# Altium schematic symbol library Schlib SOM AM625.SchLib: 118 symbols (part 2 of 4)
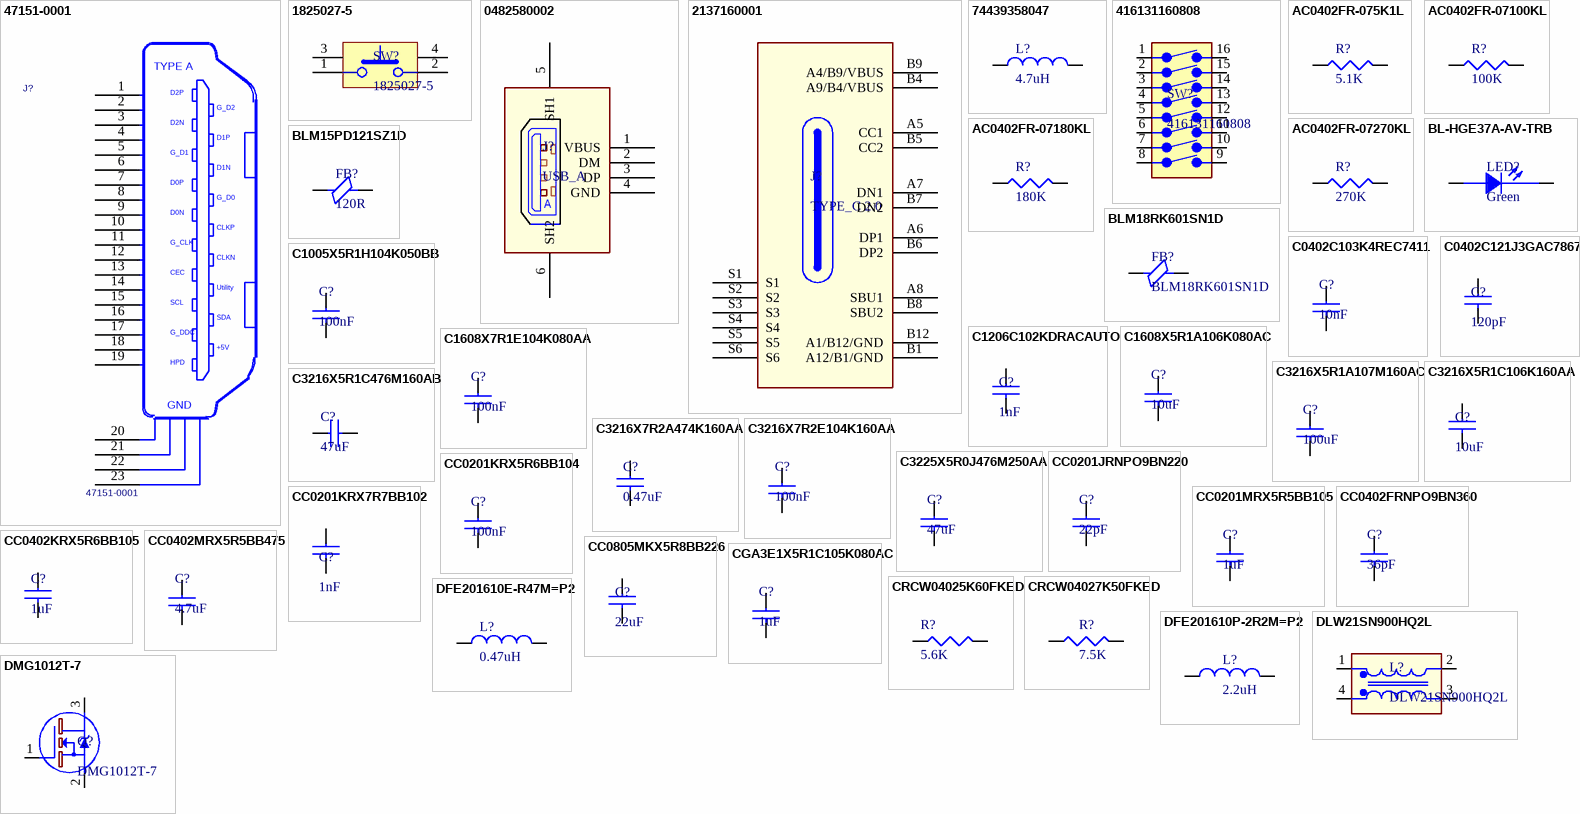
[diagram p4: symbols 47151-0001 to DMG1012T-7]

## CC0402MRX5R5BB475
designator C?, comment 4.7uF
Multilayer Ceramic Capacitor, 4.7 uF, 6.3V, ± 10%, X5R, 0402 [1005 Metric]; Manufacturer: Yageo; Manufacturer Part Number: CC0402MRX5R5BB475; Material: 4241ConductorMaterial; Temperature Coefficient: 30ppm/°C; Supplier 1: Future Electronics; RoHS: Yes; Category: Ceramic Capacitors; Stock 1: 240000; Pricing 1: 10000=0.0195, 20000=0.019, 40000=0.0186, 50000=0.0185, 150000=0.0176 (USD); ComponentLink1URL: http://www.mouser.com/ds/2/447/UPY-GPHC_X5R_4V-to-50V_25-1131599.pdf?src-supplier=Mouser; ComponentLink1Description: http://www.mouser.com/ds/2/447/UPY-GPHC_X5R_4V-to-50V_25-1131599.pdf?src-supplier=Mouser; ComponentLink2URL: https://datasheet.octopart.com/CC0402MRX5R5BB475-Yageo-datasheet-140260304.pdf?src-supplier=Newark; ComponentLink2Description: https://datasheet.octopart.com/CC0402MRX5R5BB475-Yageo-datasheet-140260304.pdf?src-supplier=Newark; ComponentLink3URL: https://datasheet.octopart.com/CC0402MRX5R5BB475-Yageo-datasheet-137875056.pdf?src-supplier=Future+Electronics; ComponentLink3Description: https://datasheet.octopart.com/CC0402MRX5R5BB475-Yageo-datasheet-137875056.pdf?src-supplier=Future+Electronics; ComponentLink4URL: http://www.yageo.com/documents/recent/UPY-GPHC_X5R_4V-to-50V_25.pdf?src-supplier=Digi-Key; ComponentLink4Description: http://www.yageo.com/documents/recent/UPY-GPHC_X5R_4V-to-50V_25.pdf?src-supplier=Digi-Key; ComponentLink5URL: http://www.yageo.com/exep/pages/download/literatures/ProductSelectionGuide%202014_Final_2.pdf?src-supplier=Digi-Key; ComponentLink5Description: http://www.yageo.com/exep/pages/download/literatures/ProductSelectionGuide%202014_Final_2.pdf?src-supplier=Digi-Key; ComponentLink6URL: http://www.yageo.com/documents/recent/UPY-GPHC_X5R_4V-to-50V_12.pdf?src-supplier=Avnet; ComponentLink6Description: http://www.yageo.com/documents/recent/UPY-GPHC_X5R_4V-to-50V_12.pdf?src-supplier=Avnet; ComponentLink7URL: https://datasheet.octopart.com/CC0402MRX5R5BB475-Yageo-datasheet-149070021.pdf?src-supplier=TME; ComponentLink7Description: https://datasheet.octopart.com/CC0402MRX5R5BB475-Yageo-datasheet-149070021.pdf?src-supplier=TME; Supplier Part Number 1: 7044477
footprint C0402
pins: 1, 2

## CC0805MKX5R8BB226
designator C?, comment 22uF
Multilayer Ceramic Capacitor, 22 uF, 25 V, ± 20%, X6S, 0805 [2012 Metric]; Manufacturer: Yageo; Manufacturer Part Number: CC0805MKX5R8BB226; Material: 4241ConductorMaterial; Supplier 1: Future Electronics; RoHS: Yes; Category: Ceramic Capacitors; Stock 1: 10; Pricing 1: 1=0.375, 15=0.3, 75=0.255, 300=0.215, 1500=0.172 (USD); ComponentLink1URL: http://www.mouser.com/ds/2/447/Yageo_UPY-GP_NP0_16V-to-50V_9-358835.pdf?src-supplier=Mouser; ComponentLink1Description: http://www.mouser.com/ds/2/447/Yageo_UPY-GP_NP0_16V-to-50V_9-358835.pdf?src-supplier=Mouser; ComponentLink2URL: https://datasheet.octopart.com/CC0805MKX5R8BB226-Yageo-datasheet-137700085.pdf?src-supplier=Future+Electronics; ComponentLink2Description: https://datasheet.octopart.com/CC0805MKX5R8BB226-Yageo-datasheet-137700085.pdf?src-supplier=Future+Electronics; ComponentLink3URL: http://www.yageo.com/documents/recent/UPY-GPHC_X5R_4V-to-50V_25.pdf?src-supplier=Digi-Key; ComponentLink3Description: http://www.yageo.com/documents/recent/UPY-GPHC_X5R_4V-to-50V_25.pdf?src-supplier=Digi-Key; Supplier Part Number 1: 1151527
footprint C0805
pins: 1, 2

## CGA3E1X5R1C105K080AC
designator C?, comment 1uF
Multilayer Ceramic Capacitor, 1 uF, 16 V, ± 10%, X5R, 0603 [1608 Metric]; Manufacturer: TDK; Manufacturer Part Number: CGA3E1X5R1C105K080AC; Material: 4241ConductorMaterial; Voltage Rating: 16V; Supplier 1: Digi-Key; RoHS: Yes; Category: Ceramic Capacitors; Stock 1: 37719; Pricing 1: 1=0.11, 10=0.072, 50=0.0432, 100=0.034, 500=0.02514, 1000=0.02081 (USD); Mount: Surface Mount; Case/Package: 0603; Case Code (Metric): 1608; Case Code (Imperial): 0603; Weight: 7.1E-05oz; Min Operating Temperature: -55°C; Max Operating Temperature: 85°C; Package Quantity: 4000; Packaging: Tape and Reel; Capacitance: 1uF; Tolerance: 10%; Dielectric: X5R; Termination: SMD/SMT; Voltage Rating (DC): 16V; Series: CGA; Length: 1.6mm; Width: 0.8mm; Height: 0.8mm; Ratings: AEC-Q200; RoHS Compliant: Yes; Lead Free: 5697LeadFree; ComponentLink1URL: http://www.farnell.com/datasheets/1936565.pdf?src-supplier=Farnell; ComponentLink1Description: http://www.farnell.com/datasheets/1936565.pdf?src-supplier=Farnell; ComponentLink2URL: https://product.tdk.com/info/en/documents/chara_sheet/CGA3E1X5R1C105K080AC.pdf?src-supplier=Digi-Key; ComponentLink2Description: https://product.tdk.com/info/en/documents/chara_sheet/CGA3E1X5R1C105K080AC.pdf?src-supplier=Digi-Key; ComponentLink3URL: https://product.tdk.com/info/en/catalog/datasheets/mlcc_automotive_general_en.pdf?ref_disty=digikey&src-supplier=Digi-Key; ComponentLink3Description: https://product.tdk.com/info/en/catalog/datasheets/mlcc_automotive_general_en.pdf?ref_disty=digikey&src-supplier=Digi-Key; ComponentLink4URL: https://datasheet.octopart.com/CGA3E1X5R1C105K080AC-TDK-datasheet-43366117.pdf?src-supplier=Newark; ComponentLink4Description: https://datasheet.octopart.com/CGA3E1X5R1C105K080AC-TDK-datasheet-43366117.pdf?src-supplier=Newark; ComponentLink5URL: http://product.tdk.com/capacitor/mlcc/detailed_information.php?lang=en&ref=jp&part_no=CGA3E1X5R1C105K080AC&src-supplier=Mouser; ComponentLink5Description: http://product.tdk.com/capacitor/mlcc/detailed_information.php?lang=en&ref=jp&part_no=CGA3E1X5R1C105K080AC&src-supplier=Mouser; ComponentLink6URL: http://product.tdk.com/en/catalog/datasheets/mlcc_automotive_general_en.pdf?src-supplier=Avnet; ComponentLink6Description: http://product.tdk.com/en/catalog/datasheets/mlcc_automotive_general_en.pdf?src-supplier=Avnet; Supplier Part Number 1: 445-12457-1-ND
footprint C0603
pins: 1, 2

## CRCW04025K60FKED
designator R?, comment 5.6K
SMD Chip Resistor, 5.6 kOhm, ± 1%, 63 mW, 0402 [1005 Metric], Thick Film, General Purpose; Manufacturer: Vishay; Manufacturer Part Number: CRCW04025K60FKED; Supplier 1: Mouser; RoHS: Yes; Category: Chip SMD Resistors; Stock 1: 9314; Pricing 1: 1=0.1, 10=0.016, 50=0.016, 100=0.01, 1000=0.007, 10000=0.004 (USD); ComponentLink1URL: https://datasheet.ciiva.com/11811/0900766b80d98824-11811648.pdf?src-supplier=Rs; ComponentLink1Description: https://datasheet.ciiva.com/11811/0900766b80d98824-11811648.pdf?src-supplier=Rs; ComponentLink2URL: https://datasheet.ciiva.com/5542/dcrcwe3-109170-5542982.pdf?src-supplier=Mouser; ComponentLink2Description: https://datasheet.ciiva.com/5542/dcrcwe3-109170-5542982.pdf?src-supplier=Mouser; ComponentLink3URL: https://datasheet.ciiva.com/2463/dcrcwe3-2463170.pdf?src-supplier=Digi-Key; ComponentLink3Description: https://datasheet.ciiva.com/2463/dcrcwe3-2463170.pdf?src-supplier=Digi-Key; ComponentLink4URL: https://datasheet.ciiva.com/2463/dcrcwe3-2463171.pdf?src-supplier=Digi-Key; ComponentLink4Description: https://datasheet.ciiva.com/2463/dcrcwe3-2463171.pdf?src-supplier=Digi-Key; ComponentLink5URL: https://datasheet.ciiva.com/2463/dcrcwe3-2463169.pdf?src-supplier=Digi-Key; ComponentLink5Description: https://datasheet.ciiva.com/2463/dcrcwe3-2463169.pdf?src-supplier=Digi-Key; ComponentLink6URL: https://datasheet.ciiva.com/26316/fld-crcw-e3-data-en-26316655.pdf?src-supplier=Distrelec; ComponentLink6Description: https://datasheet.ciiva.com/26316/fld-crcw-e3-data-en-26316655.pdf?src-supplier=Distrelec; ComponentLink7URL: https://datasheet.ciiva.com/16764/70201119-16764745.pdf?src-supplier=Allied+Electronics; ComponentLink7Description: https://datasheet.ciiva.com/16764/70201119-16764745.pdf?src-supplier=Allied+Electronics; ComponentLink8URL: https://datasheet.ciiva.com/22871/70201119-22871743.pdf?src-supplier=Allied+Electronics; ComponentLink8Description: https://datasheet.ciiva.com/22871/70201119-22871743.pdf?src-supplier=Allied+Electronics; ComponentLink9URL: https://datasheet.ciiva.com/22683/1847332-22683286.pdf?src-supplier=Element14; ComponentLink9Description: https://datasheet.ciiva.com/22683/1847332-22683286.pdf?src-supplier=Element14; ComponentLink10URL: https://datasheet.ciiva.com/7743/dcrcwe3-7743708.pdf?src-supplier=Element14; ComponentLink10Description: https://datasheet.ciiva.com/7743/dcrcwe3-7743708.pdf?src-supplier=Element14; Supplier Part Number 1: 71-CRCW04025K60FKED
footprint R0402
pins: 1, 2

## CRCW04027K50FKED
designator R?, comment 7.5K
SMD Chip Resistor, 7.5 kOhm, ± 1%, 63 mW, 0402 [1005 Metric], Thick Film, General Purpose; Manufacturer: Vishay; Manufacturer Part Number: CRCW04027K50FKED; Resistance: 7.5kR; Temperature Coefficient: 100ppm/°C; Voltage Rating: 50V; Max Power Dissipation: 63mW; Supplier 1: Mouser; RoHS: Yes; Category: Chip SMD Resistors; Stock 1: 78641; Pricing 1: 1=0.1, 10=0.016, 50=0.016, 100=0.009, 1000=0.008, 2500=0.006, 10000=0.006, 20000=0.004, 100000=0.003 (USD); Case/Package: 0402; Contact Plating: Tin; Weight: 2.3E-05oz; Case Code (Metric): 1005; Case Code (Imperial): 0402; Size Code: 0402; Min Operating Temperature: -55°C; Max Operating Temperature: 155°C; Tolerance: 1%; Packaging: Tape and Reel; Package Quantity: 10000; Number of Terminations: 2; Features: Automotive AEC-Q200; Series: CRCW; Power Rating: 63mW; Resistor Type: Thick Film; Termination: SMD/SMT; Technology: THICK FILM; Construction: Rectangular; Resistance Tolerance: 1%; Voltage Rating (DC): 50V; Length: 1mm; Width: 0.5mm; Height: 0.35mm; Depth: 0.5mm; Ratings: AEC-Q200; Radiation Hardening: No; RoHS Compliant: Yes; Lead Free: 5697LeadFree; Military Standard: Not; Reach SVHC Compliant: Unknown; ComponentLink1URL: https://datasheet.ciiva.com/11809/0900766b80d98824-11809969.pdf?src-supplier=Rs; ComponentLink1Description: https://datasheet.ciiva.com/11809/0900766b80d98824-11809969.pdf?src-supplier=Rs; ComponentLink2URL: https://datasheet.ciiva.com/16494/dcrcwe3-16494455.pdf?src-supplier=Future+Electronics; ComponentLink2Description: https://datasheet.ciiva.com/16494/dcrcwe3-16494455.pdf?src-supplier=Future+Electronics; ComponentLink3URL: https://datasheet.ciiva.com/3256/dcrcwe3-3256821.pdf?src-supplier=Avnet; ComponentLink3Description: https://datasheet.ciiva.com/3256/dcrcwe3-3256821.pdf?src-supplier=Avnet; ComponentLink4URL: https://datasheet.ciiva.com/7679/1697337-7679259.pdf?src-supplier=Element14; ComponentLink4Description: https://datasheet.ciiva.com/7679/1697337-7679259.pdf?src-supplier=Element14; ComponentLink5URL: https://datasheet.ciiva.com/2525/dcrcwe3-2525702.pdf?src-supplier=Digi-Key; ComponentLink5Description: https://datasheet.ciiva.com/2525/dcrcwe3-2525702.pdf?src-supplier=Digi-Key; ComponentLink6URL: https://datasheet.ciiva.com/2525/dcrcwe3-2525703.pdf?src-supplier=Digi-Key; ComponentLink6Description: https://datasheet.ciiva.com/2525/dcrcwe3-2525703.pdf?src-supplier=Digi-Key; ComponentLink7URL: https://datasheet.ciiva.com/2525/dcrcwe3-2525701.pdf?src-supplier=Digi-Key; ComponentLink7Description: https://datasheet.ciiva.com/2525/dcrcwe3-2525701.pdf?src-supplier=Digi-Key; ComponentLink8URL: https://datasheet.ciiva.com/5549/dcrcwe3-109170-5549915.pdf?src-supplier=Mouser; ComponentLink8Description: https://datasheet.ciiva.com/5549/dcrcwe3-109170-5549915.pdf?src-supplier=Mouser; ComponentLink9URL: https://datasheet.ciiva.com/3256/dcrcwe3-3256822.pdf?src-supplier=Avnet; ComponentLink9Description: https://datasheet.ciiva.com/3256/dcrcwe3-3256822.pdf?src-supplier=Avnet; Supplier Part Number 1: 71-CRCW0402-7.5K-E3
footprint R0402
pins: 1, 2

## DFE201610E-R47M=P2
designator L?, comment 0.47uH
Inductor Power Shielded Wirewound 0.47uH 20% 1MHz Metal 3.6A 0.032Ohm DCR 0806 T/R; Manufacturer: Murata; Manufacturer Part Number: DFE201610E-R47M=P2; Inductance: 470nH; Saturation Current: 4.8A; Series Resistance: 32mR; Supplier 1: Digi-Key; RoHS: Yes; Category: Fixed Inductors; Stock 1: 21073; Pricing 1: 1=0.32, 10=0.261, 25=0.2412, 50=0.221, 100=0.1948, 250=0.1888, 500=0.16872, 1000=0.13658 (USD); Min Operating Temperature: -40°C; Max Operating Temperature: 125°C; Current Rating: 3.6A; Inductance Tolerance: 20%; Packaging: 13Packaging; RMS Current (Irms): 3.6A; Test Frequency: 1MHz; Tolerance: 20%; Height: 1mm; RoHS Compliant: Yes; ComponentLink1URL: http://www.farnell.com/datasheets/2339713.pdf?src-supplier=Farnell; ComponentLink1Description: http://www.farnell.com/datasheets/2339713.pdf?src-supplier=Farnell; ComponentLink2URL: https://datasheet.octopart.com/DFE201610E-R47M%3DP2-Murata-datasheet-90967093.pdf?src-supplier=Element14; ComponentLink2Description: https://datasheet.octopart.com/DFE201610E-R47M%3DP2-Murata-datasheet-90967093.pdf?src-supplier=Element14; ComponentLink3URL: http://search.murata.co.jp/Ceramy/image/img/P02/J(E)TE243A-0001_DFE201610E_reference.pdf?src-supplier=Digi-Key; ComponentLink3Description: http://search.murata.co.jp/Ceramy/image/img/P02/J(E)TE243A-0001_DFE201610E_reference.pdf?src-supplier=Digi-Key; ComponentLink4URL: https://datasheet.octopart.com/DFE201610E-R47M%3DP2-Murata-datasheet-150009017.pdf?src-supplier=Arrow.cn; ComponentLink4Description: https://datasheet.octopart.com/DFE201610E-R47M%3DP2-Murata-datasheet-150009017.pdf?src-supplier=Arrow.cn; Supplier Part Number 1: 490-18109-1-ND
footprint l2016
pins: 1, 2

## DFE201610P-2R2M=P2
designator L?, comment 2.2uH
Inductor Power Shielded Wirewound 2.2uH 20% 1MHz Metal 1.4A 0.168Ohm DCR 0806 T/R; Manufacturer: Murata; Manufacturer Part Number: DFE201610P-2R2M=P2; Core Material: Ferrite; Current Rating: 2A; DC Resistance (DCR): 168mR; Supplier 1: Arrow Electronics; RoHS: Yes; Category: Fixed Inductors; Stock 1: 1; Pricing 1: 1=0.1096 (USD); Mount: Surface Mount; Case/Package: 0806; Case Code (Metric): 2016; Case Code (Imperial): 0806; Min Operating Temperature: -40°C; Max Operating Temperature: 125°C; Inductance: 2.2uH; Packaging: Cut Tape; Shielding: Shielded; Test Frequency: 1MHz; Tolerance: 20%; Series: DFE201610P; Length: 0.079inch; Width: 0.063inch; Height - Seated (Max): 0.039inch; RoHS Compliant: Yes; ComponentLink1URL: http://farnell.com//datasheets/2550119.pdf?src-supplier=Farnell; ComponentLink1Description: http://farnell.com//datasheets/2550119.pdf?src-supplier=Farnell; ComponentLink2URL: https://www.murata.com/~/media/webrenewal/products/inductor/chip/tokoproducts/wirewoundmetalalloychiptype/m_dfe201610p.ashx?src-supplier=Digi-Key; ComponentLink2Description: https://www.murata.com/~/media/webrenewal/products/inductor/chip/tokoproducts/wirewoundmetalalloychiptype/m_dfe201610p.ashx?src-supplier=Digi-Key; Supplier Part Number 1: DFE201610P-2R2M=P2
footprint l2016
pins: 1, 2

## DLW21SN900HQ2L
designator L?
Ind Common Mode Choke Wirewound 90Ohm 25% 100MHz 280mA 0805 Embossed T/R; Manufacturer: Murata; Impedance: 90R; Number of Lines: 2; Shielding: Unshielded; DC Resistance (DCR): 410mR; Voltage Rating (DC): 20V; Supplier 1: Arrow Electronics; Manufacturer Part Number: DLW21SN900HQ2L; RoHS: Yes; Category: Common Mode Chokes; Stock 1: 18000; Pricing 1: 2000=0.2295, 4000=0.2273, 6000=0.225, 10000=0.2175, 24000=0.2153, 50000=0.2148 (USD); Mount: Surface Mount; Case/Package: 0805; Weight: 0.000388oz; Case Code (Imperial): 0805; Min Operating Temperature: -40°C; Max Operating Temperature: 85°C; Tolerance: 25%; Package Quantity: 1; Packaging: Tape and Reel; Current Rating: 280mA; Current: 280mA; Max DC Current: 280mA; Termination: SMD/SMT; Test Frequency: 100MHz; DC Current: 280mA; Series: EMIFIL®, DLW21S; Max Current Rating: 280mA; Length: 2mm; Width: 0.047inch; Height: 0.055inch; Depth: 1.2mm; Radiation Hardening: No; Military Standard: Not; Reach SVHC Compliant: No; Lead Free: Lead Free; RoHS Compliant: Yes; ComponentLink1URL: https://datasheet.ciiva.com/3068/l0114s0133dlw21s-3068656.pdf?src-supplier=Avnet; ComponentLink1Description: https://datasheet.ciiva.com/3068/l0114s0133dlw21s-3068656.pdf?src-supplier=Avnet; ComponentLink2URL: https://datasheet.ciiva.com/6216/l0114e-6216255.pdf?src-supplier=Digi-Key; ComponentLink2Description: https://datasheet.ciiva.com/6216/l0114e-6216255.pdf?src-supplier=Digi-Key; ComponentLink3URL: https://datasheet.ciiva.com/4952/muratadl-plseries-202927-4952310.pdf?src-supplier=Mouser; ComponentLink3Description: https://datasheet.ciiva.com/4952/muratadl-plseries-202927-4952310.pdf?src-supplier=Mouser; ComponentLink4URL: https://datasheet.ciiva.com/18183/getdatasheetpartid-228875-18183367.pdf?src-supplier=Verical; ComponentLink4Description: https://datasheet.ciiva.com/18183/getdatasheetpartid-228875-18183367.pdf?src-supplier=Verical; Supplier Part Number 1: DLW21SN900HQ2L
footprint IND_DLW21S_0805_MUR
pins: 1, 2, 3, 4

## DMG1012T-7
designator Q?
Transistor MOSFET NTR4003NT1G, SOT23, ON Semi; Manufacturer: Diodes; Rise Time: 7.4ns; Continuous Drain Current (ID): 630mA; Fall Time: 12.3ns; Turn-On Delay Time: 5.1ns; Turn-Off Delay Time: 26.7ns; Gate to Source Voltage (Vgs): 6V; Rds On Max: 400mR; Input Capacitance: 60.67pF; Max Power Dissipation: 280mW; Number of Elements: 1; Drain to Source Voltage (Vdss): 20V; Drain to Source Resistance: 300mR; Threshold Voltage: 1V; FET Type: 1 N-Channel; Polarity: N-CHANNEL; Supplier 1: Future Electronics; Manufacturer Part Number: DMG1012T-7; RoHS: Yes; Category: MOSFETs; Stock 1: 2052000; Pricing 1: 3000=0.0322, 9000=0.0311, 30000=0.0299, 60000=0.0292, 120000=0.0279 (USD); Mount: Surface Mount; Case/Package: SOT-523; Number of Pins: 3; Weight: 7.1E-05oz; Min Operating Temperature: -55°C; Max Operating Temperature: 150°C; Package Quantity: 3000; Packaging: Tape and Reel; Number of Channels: 1; Power Dissipation: 280mW; Series: -; Drain-source On Resistance-Max: 400MR; Length: 1.7mm; Width: 0.85mm; Height: 0.8mm; Radiation Hardening: No; Reach SVHC Compliant: No; Lead Free: Lead Free; RoHS Compliant: Yes; ComponentLink1URL: https://datasheet.ciiva.com/934/ds31783-934512.pdf?src-supplier=Digi-Key; ComponentLink1Description: https://datasheet.ciiva.com/934/ds31783-934512.pdf?src-supplier=Digi-Key; ComponentLink2URL: https://datasheet.ciiva.com/4442/ds31783-44973-4442944.pdf?src-supplier=Mouser; ComponentLink2Description: https://datasheet.ciiva.com/4442/ds31783-44973-4442944.pdf?src-supplier=Mouser; ComponentLink3URL: https://datasheet.ciiva.com/11174/ds31783-11174965.pdf?src-supplier=Avnet; ComponentLink3Description: https://datasheet.ciiva.com/11174/ds31783-11174965.pdf?src-supplier=Avnet; ComponentLink4URL: https://datasheet.ciiva.com/934/ds31783-934511.pdf?src-supplier=Digi-Key; ComponentLink4Description: https://datasheet.ciiva.com/934/ds31783-934511.pdf?src-supplier=Digi-Key; ComponentLink5URL: https://datasheet.ciiva.com/6383/ds31783-6383803.pdf?src-supplier=Digi-Key; ComponentLink5Description: https://datasheet.ciiva.com/6383/ds31783-6383803.pdf?src-supplier=Digi-Key; Supplier Part Number 1: 1018280
footprint sot_523
pins: 1 G, 2 S, 3 D

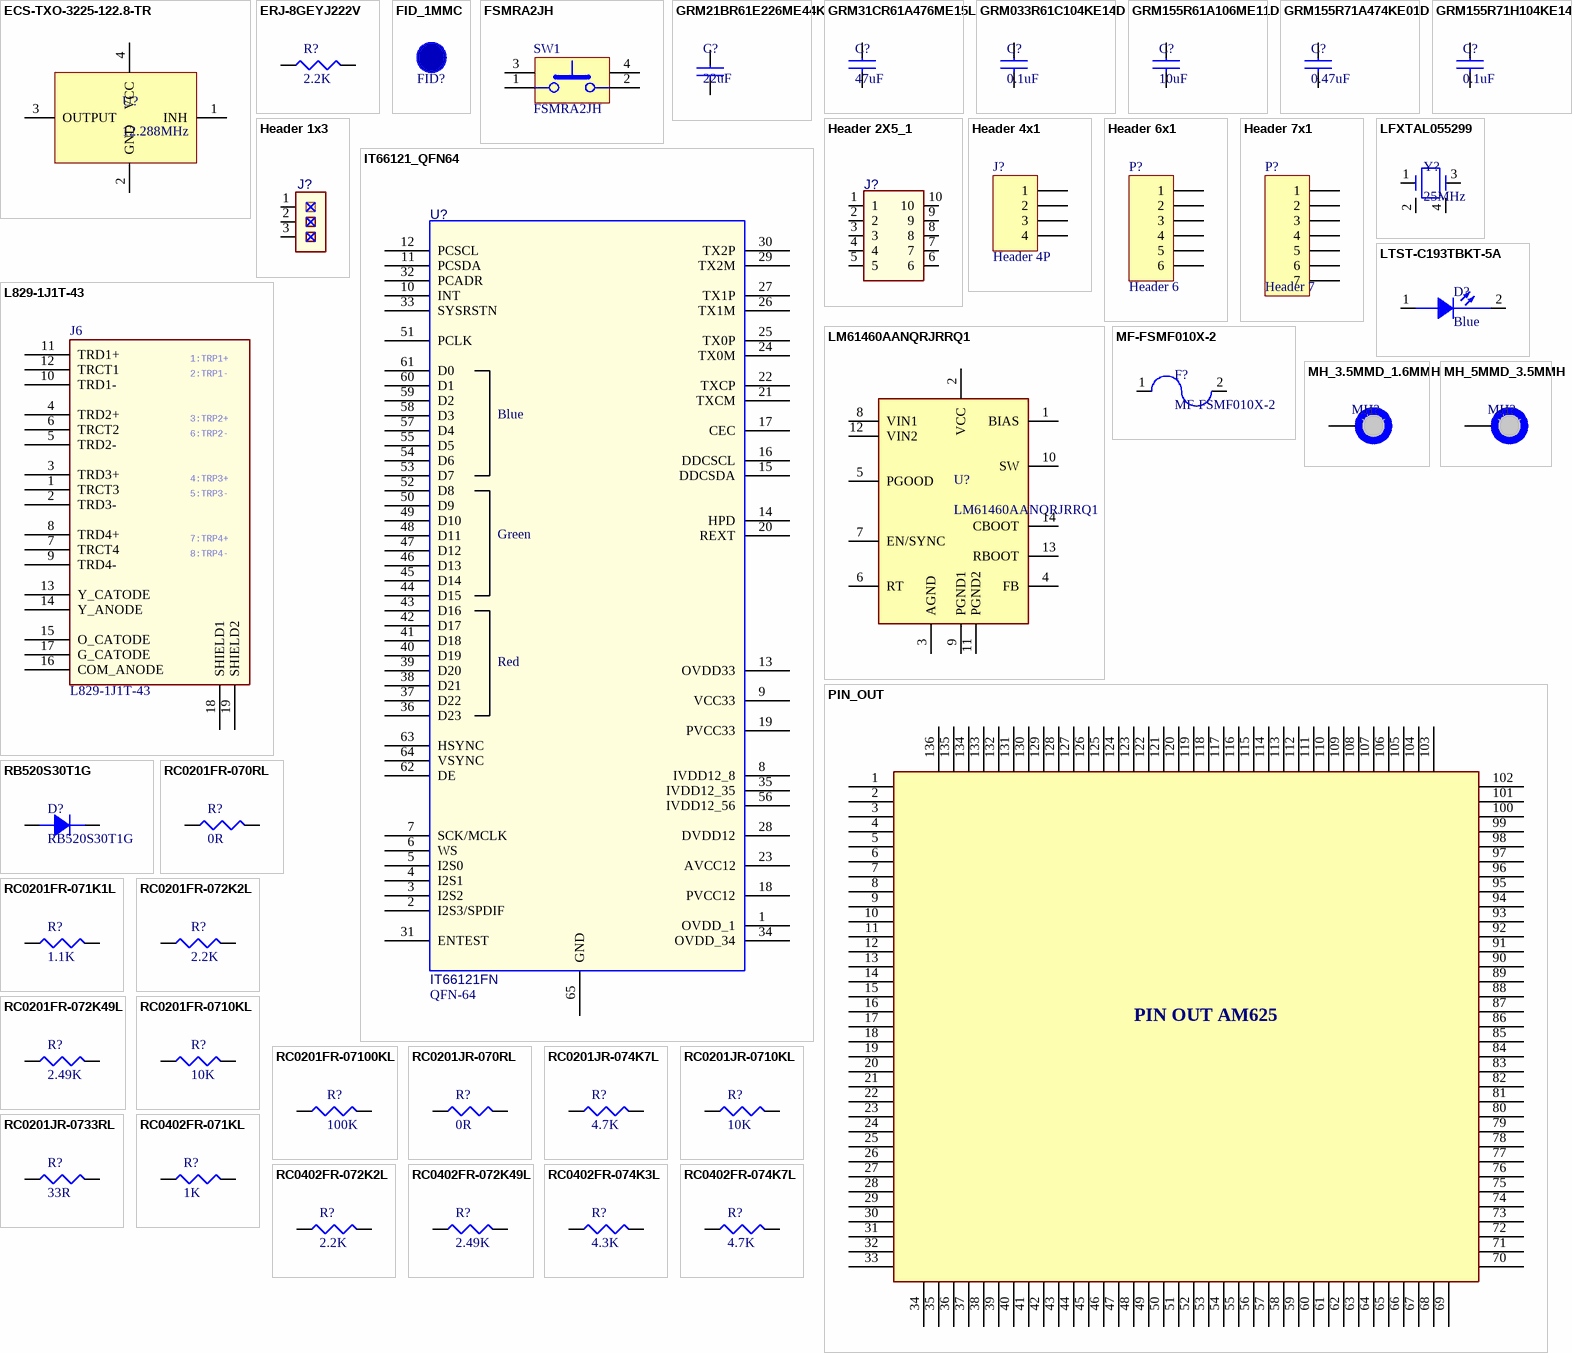
[diagram p1: symbols ECS-TXO-3225-122.8-TR to RC0402FR-074K7L]

## ECS-TXO-3225-122.8-TR
designator U?, comment 12.288MHz
Oscillator TCXO 12.288MHz ±1.5ppm (Tol) ±2.5ppm (Stability) 15pF HCMOS 60% 3.3V 4-Pin SMD T/R; Manufacturer: ECS International; Manufacturer Part Number: ECS-TXO-3225-122.8-TR; Max Supply Current: 6mA; Supplier 1: Arrow Electronics; RoHS: Yes; Category: Oscillators; Stock 1: 1465; Pricing 1: 1=1.934, 10=1.89, 25=1.884, 50=1.803, 100=1.642, 250=1.625, 500=1.612, 1000=1.611 (USD); Mount: Surface Mount; Case/Package: SMD/SMT; Min Operating Temperature: -30°C; Max Operating Temperature: 85°C; Packaging: Cut Tape; Frequency: 12.288MHz; Frequency Stability: 2.5ppm; Series: ECS-TXO-3225; RoHS Compliant: Yes; ComponentLink1URL: http://www.mouser.com/ds/2/122/ECS-TXO-3225-608196.pdf?src-supplier=Mouser; ComponentLink1Description: http://www.mouser.com/ds/2/122/ECS-TXO-3225-608196.pdf?src-supplier=Mouser; ComponentLink2URL: http://www.ecsxtal.com/store/pdf/ECS-TXO-3225.pdf?src-supplier=Digi-Key; ComponentLink2Description: http://www.ecsxtal.com/store/pdf/ECS-TXO-3225.pdf?src-supplier=Digi-Key; Supplier Part Number 1: ECS-TXO-3225-122.8-TR
footprint x4-smd-3_2x2_5x1_0mm
pins: 1 INH, 2 GND, 3 OUTPUT, 4 VCC

## ERJ-8GEYJ222V
designator R?, comment 2.2K
Res Thick Film 1206 2.2K Ohm 5% 1/4W ±200ppm/°C Molded SMD Punched Carrier T/R; Manufacturer: Panasonic; Manufacturer Part Number: ERJ-8GEYJ222V; Resistance: 2.2kR; Voltage Rating: 200V; Power Rating: 250mW; Supplier 1: Mouser; RoHS: Yes; Category: Chip SMD Resistors; Stock 1: 38491; Pricing 1: 1=0.13, 10=0.048, 50=0.048, 100=0.029, 1000=0.022, 10000=0.014 (USD); Mount: Surface Mount; Case/Package: 1206; Contact Plating: Tin; Case Code (Imperial): 1206; Case Code (Metric): 3216; Min Operating Temperature: -55°C; Max Operating Temperature: 155°C; Tolerance: 5%; Resistor Type: Thick Film; Temperature Coefficient: 200ppm/°C; Packaging: Tape and Reel; Package Quantity: 1; Number of Terminations: 2; Termination: SMD/SMT; Max Power Dissipation: 250mW; Voltage Rating (DC): 200V; Features: Automotive AEC-Q200; Series: ERJ; Construction: Rectangular; Resistance Tolerance: 5%; Length: 3.2mm; Width: 1.6mm; Height: 0.028inch; Depth: 1.6mm; Ratings: AEC-Q200; Radiation Hardening: No; Military Standard: Not; Lead Free: Lead Free; RoHS Compliant: Yes; Reach SVHC Compliant: Unknown; ComponentLink1URL: https://datasheet.ciiva.com/43460/1500035-43460237.pdf?src-supplier=Farnell; ComponentLink1Description: https://datasheet.ciiva.com/43460/1500035-43460237.pdf?src-supplier=Farnell; ComponentLink2URL: https://datasheet.ciiva.com/46389/1500035-46389638.pdf?src-supplier=Element14; ComponentLink2Description: https://datasheet.ciiva.com/46389/1500035-46389638.pdf?src-supplier=Element14; ComponentLink3URL: https://datasheet.ciiva.com/22758/1500035-22758253.pdf?src-supplier=Farnell; ComponentLink3Description: https://datasheet.ciiva.com/22758/1500035-22758253.pdf?src-supplier=Farnell; ComponentLink4URL: https://datasheet.ciiva.com/46380/1500035-46380508.pdf?src-supplier=Element14; ComponentLink4Description: https://datasheet.ciiva.com/46380/1500035-46380508.pdf?src-supplier=Element14; ComponentLink5URL: https://datasheet.ciiva.com/28584/1678796-28584107.pdf?src-supplier=Element14; ComponentLink5Description: https://datasheet.ciiva.com/28584/1678796-28584107.pdf?src-supplier=Element14; ComponentLink6URL: https://datasheet.ciiva.com/16766/70255313-16766985.pdf?src-supplier=Allied+Electronics; ComponentLink6Description: https://datasheet.ciiva.com/16766/70255313-16766985.pdf?src-supplier=Allied+Electronics; ComponentLink7URL: https://datasheet.ciiva.com/16764/70255313-16764044.pdf?src-supplier=Allied+Electronics; ComponentLink7Description: https://datasheet.ciiva.com/16764/70255313-16764044.pdf?src-supplier=Allied+Electronics; ComponentLink8URL: https://datasheet.ciiva.com/48532/aoa0000ce1-48532070.pdf?src-supplier=Avnet; ComponentLink8Description: https://datasheet.ciiva.com/48532/aoa0000ce1-48532070.pdf?src-supplier=Avnet; ComponentLink9URL: https://datasheet.ciiva.com/30094/4aoa0000ce1-30094159.pdf?src-supplier=Onlinecomponents.com; ComponentLink9Description: https://datasheet.ciiva.com/30094/4aoa0000ce1-30094159.pdf?src-supplier=Onlinecomponents.com; Supplier Part Number 1: 667-ERJ-8GEYJ222V
footprint R1206B/3216MM (Chip Resistor, 2-Leads, Body 3.2x1.6mm, IPC Medium Density)
pins: 1, 2

## FID_1MMC
designator FID?  (value not drawn)  (no BOM)
Fiducial 40mil Diameter, 120mil Mask; Supplier: Digikey
footprint FID_40X120D

## FSMRA2JH
designator SW1
SWITCH TACTILE SPST-NO 0.05A 12V; Manufacturer: TE Connectivity; Switch Function: Off-Mom; Contact Rating @ Voltage: 0.05A @ 12VDC; Actuator Type: Standard; Actuator Height off PCB, from Pins: 3.86mm; Actuator Orientation: Side Actuated; Outline: 7.10mm x 7.00mm; Illumination: Non-Illuminated; Operating Force: 160gf; Actuator Material: Polybutylene Terephthalate (PBT); Switch Travel: 0.25mm; Mechanical Life: 100,000 Cycles; .Creator: MM; Supplier 1: Digi-Key; Manufacturer Part Number: FSMRA2JH; RoHS: RoHS Compliant; Category: Switches; Stock 1: 12215; Pricing 1: 1=0.16, 10=0.151, 25=0.146, 50=0.141, 100=0.1331, 250=0.12528, 500=0.12006, 1000=0.09135 (USD); Packaging: Bulk; Circuit: SPST-NO; Mounting Type: Through Hole, Right Angle; Termination Style: PC Pin; Illumination Voltage (Nominal): -; Illumination Type, Color: -; Ingress Protection: -; Features: -; Operating Temperature: -35°C ~ 85°C; ComponentLink1URL: http://media.digikey.com/pdf/Data%20Sheets/Tyco%20Electronics%20Alcoswitch%20PDFs/FSM%20Series.pdf; ComponentLink1Description: http://media.digikey.com/pdf/Data%20Sheets/Tyco%20Electronics%20Alcoswitch%20PDFs/FSM%20Series.pdf; Supplier Part Number 1: 450-1662-ND; .Checked PCB: MM; .Checked SCH: MM
footprint FSMRA2JH (Creator MM)
pins: 1, 2, 3 MECH1, 4 MECH2

## GRM21BR61E226ME44K
designator C?, comment 22uF
Multilayer Ceramic Capacitor, 22 uF, 25 V, ± 20%, X5R, 0805 [2012 Metric]; Manufacturer: Murata; Manufacturer Part Number: GRM21BR61E226ME44K; Material: 4241ConductorMaterial; Voltage Rating: 25V; Supplier 1: Arrow Electronics; RoHS: Yes; Category: Ceramic Capacitors; Stock 1: 10203; Pricing 1: 1=0.3041, 10=0.163, 25=0.1562, 100=0.105, 250=0.104, 500=0.0983, 1000=0.07, 3000=0.0693, 6000=0.0606 (USD); Mount: Surface Mount; Case/Package: 0805; Case Code (Imperial): 0805; Case Code (Metric): 2012; Weight: 0.000335oz; Min Operating Temperature: -55°C; Max Operating Temperature: 85°C; Packaging: Tape and Reel; Capacitance: 22uF; Tolerance: 20%; Dielectric: X5R; Termination: SMD/SMT; Voltage Rating (DC): 25V; Package Quantity: 10000; Series: GRM; Length: 0.079inch; Width: 1.25mm; Height: 1.25mm; Thickness: 0.057inch; RoHS Compliant: Yes; ComponentLink1URL: http://www.mouser.com/ds/2/281/c02e-2905.pdf?src-supplier=Mouser; ComponentLink1Description: http://www.mouser.com/ds/2/281/c02e-2905.pdf?src-supplier=Mouser; ComponentLink2URL: http://search.murata.co.jp/Ceramy/image/img/A01X/G101/ENG/GRM21BR61E226ME44-01.pdf?src-supplier=Digi-Key; ComponentLink2Description: http://search.murata.co.jp/Ceramy/image/img/A01X/G101/ENG/GRM21BR61E226ME44-01.pdf?src-supplier=Digi-Key; ComponentLink3URL: https://search.murata.co.jp/Ceramy/image/img/A01X/G101/ENG/GRM21BR61E226ME44-01.pdf?src-supplier=Digi-Key; ComponentLink3Description: https://search.murata.co.jp/Ceramy/image/img/A01X/G101/ENG/GRM21BR61E226ME44-01.pdf?src-supplier=Digi-Key; Supplier Part Number 1: GRM21BR61E226ME44K
footprint C0805
pins: 1, 2

## GRM31CR61A476ME15L
designator C?, comment 47uF
Multilayer Ceramic Capacitor, 47 uF, 10 V, ± 20%, X5R, 1206 [3216 Metric]; Manufacturer: Murata; Manufacturer Part Number: GRM31CR61A476ME15L; Supplier 1: Arrow Electronics; RoHS: Yes; Category: Ceramic Capacitors; Stock 1: 120000; Pricing 1: 2000=0.1162, 4000=0.1078, 10000=0.0977, 50000=0.0818 (USD); ComponentLink1URL: https://datasheet.ciiva.com/6031/1697710-6031936.pdf?src-supplier=Farnell; ComponentLink1Description: https://datasheet.ciiva.com/6031/1697710-6031936.pdf?src-supplier=Farnell; ComponentLink2URL: https://datasheet.ciiva.com/3779/2151grm31cr61a476me1523-3779480.pdf?src-supplier=Arrow+Electronics; ComponentLink2Description: https://datasheet.ciiva.com/3779/2151grm31cr61a476me1523-3779480.pdf?src-supplier=Arrow+Electronics; ComponentLink3URL: https://datasheet.ciiva.com/16461/product-16461242.pdf?src-supplier=Future+Electronics; ComponentLink3Description: https://datasheet.ciiva.com/16461/product-16461242.pdf?src-supplier=Future+Electronics; ComponentLink4URL: https://datasheet.ciiva.com/7719/1697710-7719146.pdf?src-supplier=Element14; ComponentLink4Description: https://datasheet.ciiva.com/7719/1697710-7719146.pdf?src-supplier=Element14; ComponentLink5URL: https://datasheet.ciiva.com/5416/product-5416711.pdf?src-supplier=Mouser; ComponentLink5Description: https://datasheet.ciiva.com/5416/product-5416711.pdf?src-supplier=Mouser; ComponentLink6URL: https://datasheet.ciiva.com/14116/grmseries-highdielectrictype-eng-14116399.pdf?src-supplier=Distrelec; ComponentLink6Description: https://datasheet.ciiva.com/14116/grmseries-highdielectrictype-eng-14116399.pdf?src-supplier=Distrelec; ComponentLink7URL: https://datasheet.ciiva.com/11606/product-11606488.pdf?src-supplier=Avnet; ComponentLink7Description: https://datasheet.ciiva.com/11606/product-11606488.pdf?src-supplier=Avnet; ComponentLink8URL: https://datasheet.ciiva.com/141/partnumbering-e-01-141779.pdf?src-supplier=Digikey; ComponentLink8Description: https://datasheet.ciiva.com/141/partnumbering-e-01-141779.pdf?src-supplier=Digikey; ComponentLink9URL: https://datasheet.ciiva.com/141/partnumbering-e-01-141780.pdf?src-supplier=Digikey; ComponentLink9Description: https://datasheet.ciiva.com/141/partnumbering-e-01-141780.pdf?src-supplier=Digikey; ComponentLink10URL: https://datasheet.ciiva.com/141/partnumbering-e-01-141781.pdf?src-supplier=Digikey; ComponentLink10Description: https://datasheet.ciiva.com/141/partnumbering-e-01-141781.pdf?src-supplier=Digikey; Supplier Part Number 1: GRM31CR61A476ME15L
footprint C1206B/3216MM (Chip Capacitor, 2-Leads, Body 3.2x1.6mm, IPC Medium Density)
pins: 1, 2

## GRM033R61C104KE14D
designator C?, comment 0.1uF
Multilayer Ceramic Capacitor, 0.1 uF, 16 V, ± 10%, X5R, 0201 [0603 Metric]; Manufacturer: Murata; Manufacturer Part Number: GRM033R61C104KE14D; Material: 4241ConductorMaterial; Capacitance: 100nF; Voltage Rating (DC): 16V; Supplier 1: Arrow Electronics; RoHS: Yes; Category: Ceramic Capacitors; Stock 1: 8280000; Pricing 1: 15000=0.0039 (USD); Mount: Surface Mount; Case/Package: 0201; Case Code (Imperial): 0201; Case Code (Metric): 0603; Min Operating Temperature: -55°C; Max Operating Temperature: 85°C; Tolerance: 10%; Dielectric: X5R; Series: GRM; Voltage Rating: 16V; Packaging: Tape and Reel; Length: 600um; Width: 300um; Height: 330um; Thickness: 300um; RoHS Compliant: Yes; ComponentLink1URL: http://www.farnell.com/datasheets/2892233.pdf?src-supplier=Farnell; ComponentLink1Description: http://www.farnell.com/datasheets/2892233.pdf?src-supplier=Farnell; ComponentLink2URL: http://www.farnell.com/datasheets/2892233.pdf?src-supplier=Newark; ComponentLink2Description: http://www.farnell.com/datasheets/2892233.pdf?src-supplier=Newark; ComponentLink3URL: http://search.murata.co.jp/Ceramy/image/img/A01X/G101/ENG/GRM033R61C104KE14-01.pdf?src-supplier=Digikey; ComponentLink3Description: http://search.murata.co.jp/Ceramy/image/img/A01X/G101/ENG/GRM033R61C104KE14-01.pdf?src-supplier=Digikey; ComponentLink4URL: https://search.murata.co.jp/Ceramy/image/img/A01X/G101/ENG/GRM033R61C104KE14-01.pdf?src-supplier=Digikey; ComponentLink4Description: https://search.murata.co.jp/Ceramy/image/img/A01X/G101/ENG/GRM033R61C104KE14-01.pdf?src-supplier=Digikey; ComponentLink5URL: https://datasheet.octopart.com/GRM033R61C104KE14D-Murata-datasheet-165579666.pdf?src-supplier=TME; ComponentLink5Description: https://datasheet.octopart.com/GRM033R61C104KE14D-Murata-datasheet-165579666.pdf?src-supplier=TME; Supplier Part Number 1: GRM033R61C104KE14D
footprint C0201
pins: 1, 2

## GRM155R61A106ME11D
designator C?, comment 10uF
Multilayer Ceramic Capacitor, 10 uF, 10 V, ± 20%, X5R, 0402 [1005 Metric]; Manufacturer: Murata; Manufacturer Part Number: GRM155R61A106ME11D; Material: 4241ConductorMaterial; Dielectric: 1537DielectricType; Voltage Rating: 10V; Supplier 1: Arrow Electronics; RoHS: Yes; Category: Ceramic Capacitors; Stock 1: 100072; Pricing 1: 1=0.08, 10=0.054, 25=0.0281 (USD); Case/Package: 343Case; Min Operating Temperature: -55°C; Max Operating Temperature: 85°C; Capacitance: 10uF; Tolerance: 20%; Voltage Rating (DC): 10V; Length: 1mm; Width: 500um; Height: 700um; Thickness: 500um; RoHS Compliant: Yes; ComponentLink1URL: https://datasheet.octopart.com/GRM155R61A106ME11D-Murata-datasheet-155239053.pdf?src-supplier=Element14; ComponentLink1Description: https://datasheet.octopart.com/GRM155R61A106ME11D-Murata-datasheet-155239053.pdf?src-supplier=Element14; ComponentLink2URL: https://datasheet.octopart.com/GRM155R61A106ME11D-Murata-datasheet-165579666.pdf?src-supplier=TME; ComponentLink2Description: https://datasheet.octopart.com/GRM155R61A106ME11D-Murata-datasheet-165579666.pdf?src-supplier=TME; Supplier Part Number 1: GRM155R61A106ME11D
footprint C0402
pins: 1, 2

## GRM155R71A474KE01D
designator C?, comment 0.47uF
Multilayer Ceramic Capacitor, 0.47 uF, 10 V, ± 10%, X7R, 0402 [1005 Metric]; Manufacturer: Murata; Manufacturer Part Number: GRM155R71A474KE01D; Voltage Rating (DC): 10V; Capacitance: 470nF; Supplier 1: Arrow Electronics; RoHS: Yes; Category: Ceramic Capacitors; Stock 1: 75675; Pricing 1: 1=0.1817, 10=0.1593, 25=0.1555, 100=0.1462, 250=0.1449, 500=0.1371, 1000=0.1361, 3000=0.1351, 6000=0.1341, 15000=0.1331, 30000=0.1322, 75000=0.1312 (USD); Case/Package: 0402; Number of Pins: 2NUMBER; Material: Ceramic; Min Operating Temperature: -55°C; Max Operating Temperature: 125°C; Tolerance: 10%; Voltage Rating: 10V; Length: 1mm; Width: 0.5mm; Height: 0.3mm; Thickness: 500um; Lead Free: Lead Free; RoHS Compliant: Yes; ComponentLink1URL: https://datasheet.octopart.com/GRM155R71A474KE01D-Murata-datasheet-149523060.pdf?src-supplier=Newark; ComponentLink1Description: https://datasheet.octopart.com/GRM155R71A474KE01D-Murata-datasheet-149523060.pdf?src-supplier=Newark; ComponentLink2URL: https://datasheet.octopart.com/GRM155R71A474KE01D-Murata-datasheet-32479577.pdf?src-supplier=Future+Electronics; ComponentLink2Description: https://datasheet.octopart.com/GRM155R71A474KE01D-Murata-datasheet-32479577.pdf?src-supplier=Future+Electronics; ComponentLink3URL: http://search.murata.co.jp/Ceramy/image/img/A01X/G101/ENG/GRM155R71A474KE01-01.pdf?src-supplier=Digikey; ComponentLink3Description: http://search.murata.co.jp/Ceramy/image/img/A01X/G101/ENG/GRM155R71A474KE01-01.pdf?src-supplier=Digikey; ComponentLink4URL: https://datasheet.octopart.com/GRM155R71A474KE01D-Murata-datasheet-165579666.pdf?src-supplier=TME; ComponentLink4Description: https://datasheet.octopart.com/GRM155R71A474KE01D-Murata-datasheet-165579666.pdf?src-supplier=TME; Supplier Part Number 1: GRM155R71A474KE01D
footprint C0402
pins: 1, 2

## GRM155R71H104KE14D
designator C?, comment 0.1uF
Multilayer Ceramic Capacitor, 0.1 uF, 50 V, ± 10%, X7R, 0402 [1005 Metric]; Manufacturer: Murata; Manufacturer Part Number: GRM155R71H104KE14D; Capacitance: 100nF; Voltage Rating: 50V; Dissipation Factor: 0.025%; Supplier 1: Arrow Electronics; RoHS: Yes; Category: Ceramic Capacitors; Stock 1: 6020000; Pricing 1: 10000=0.0046, 30000=0.0042, 50000=0.0037, 100000=0.0028 (USD); Mount: Surface Mount; Case/Package: 0402; Number of Pins: 2NUMBER; Case Code (Metric): 1005; Material: Ceramic; Case Code (Imperial): 0402; Weight: 0.000212oz; Dielectric Material: Ceramic; Min Operating Temperature: -55°C; Max Operating Temperature: 125°C; Tolerance: 10%; Packaging: Tape and Reel; Dielectric: X7R; Termination: SMD/SMT; Voltage: 50V; Voltage Rating (DC): 50V; Package Quantity: 10000; Series: GRM; Construction: Flat; Length: 1mm; Width: 0.5mm; Height: 0.5mm; Thickness: 0.022inch; Depth: 0.5mm; Reach SVHC Compliant: No; RoHS Compliant: Yes; Lead Free: 5697LeadFree; ComponentLink1URL: http://www.farnell.com/datasheets/2079156.pdf?src-supplier=Farnell; ComponentLink1Description: http://www.farnell.com/datasheets/2079156.pdf?src-supplier=Farnell; ComponentLink2URL: http://www.mouser.com/ds/2/281/c02e-2905.pdf?src-supplier=Mouser; ComponentLink2Description: http://www.mouser.com/ds/2/281/c02e-2905.pdf?src-supplier=Mouser; ComponentLink3URL: https://datasheet.octopart.com/GRM155R71H104KE14D-Murata-datasheet-22122223.pdf?src-supplier=Future+Electronics; ComponentLink3Description: https://datasheet.octopart.com/GRM155R71H104KE14D-Murata-datasheet-22122223.pdf?src-supplier=Future+Electronics; ComponentLink4URL: http://www.farnell.com/datasheets/2079156.pdf?src-supplier=Newark; ComponentLink4Description: http://www.farnell.com/datasheets/2079156.pdf?src-supplier=Newark; ComponentLink5URL: https://datasheet.octopart.com/GRM155R71H104KE14D-Murata-datasheet-66077078.pdf?src-supplier=Element14; ComponentLink5Description: https://datasheet.octopart.com/GRM155R71H104KE14D-Murata-datasheet-66077078.pdf?src-supplier=Element14; ComponentLink6URL: https://search.murata.co.jp/Ceramy/image/img/A01X/G101/ENG/GRM155R71H104KE14-01.pdf?src-supplier=Digikey; ComponentLink6Description: https://search.murata.co.jp/Ceramy/image/img/A01X/G101/ENG/GRM155R71H104KE14-01.pdf?src-supplier=Digikey; Supplier Part Number 1: GRM155R71H104KE14D
footprint C0402
pins: 1, 2

## Header 1x3
designator J?
footprint HDR1X3 (Connector; Header; 3 Position)
pins: 1, 2, 3

## Header 2X5_1
designator J?
footprint CONNECT10_1D27_12_4X6_7MM
pins: 1, 2, 3, 4, 5, 6, 7, 8, 9, 10

## Header 4x1
designator J?, comment Header 4P
Header, 4 Pin Pitch 2.54mm; MPN: S1012EC-40-ND; CompanyID: VT-00125; Solder: WAVE; Value: Header 4P
footprint HDR1X4 (Connector; Header; 4 Position)
pins: 1, 2, 3, 4

## Header 6x1
designator P?, comment Header 6
Header, 6-Pin; Solder: WAVE
footprint HDR1X6 (Connector; Header; 6 Position)
pins: 1, 2, 3, 4, 5, 6

## Header 7x1
designator P?, comment Header 7
Header, 7-Pin, 2.54mm; Solder: WAVE
footprint HDR1X7 (JP7)
pins: 1, 2, 3, 4, 5, 6, 7

## IT66121_QFN64
designator U?  value IT66121FN  Package Size: QFN-64  (hidden comment: IT66121_QFN64)
IC, Interface, HDMI Transceiver, IT66121FN, QFN-64; Part Reference: U7; Manufacturer: ITE; Company Part Status: BeaglePlay; PCB Footprint: qfn64_0d5_9x9mm; PN: 310110021; Manufacturer PN: IT66121FN; CLASS: IC
footprint qfn64_0d5_9x9mm
pins: 1 OVDD_1, 2 I2S3/SPDIF, 3 I2S2, 4 I2S1, 5 I2S0, 6 WS, 7 SCK/MCLK, 8 IVDD12_8, 9 VCC33, 10 INT, 11 PCSDA, 12 PCSCL, 13 OVDD33, 14 HPD, 15 DDCSDA, 16 DDCSCL, 17 CEC, 18 PVCC12, 19 PVCC33, 20 REXT, 21 TXCM, 22 TXCP, 23 AVCC12, 24 TX0M, 25 TX0P, 26 TX1M, 27 TX1P, 28 DVDD12, 29 TX2M, 30 TX2P, 31 ENTEST, 32 PCADR, 33 SYSRSTN, 34 OVDD_34, 35 IVDD12_35, 36 D23, 37 D22, 38 D21, 39 D20, 40 D19, 41 D18, 42 D17, 43 D16, 44 D15, 45 D14, 46 D13, 47 D12, 48 D11, 49 D10, 50 D9, 51 PCLK, 52 D8, 53 D7, 54 D6, 55 D5, 56 IVDD12_56, 57 D4, 58 D3, 59 D2, 60 D1, 61 D0, 62 DE, 63 HSYNC, 64 VSYNC, 65 GND
text: Blue; Green; Red

## L829-1J1T-43
designator J6
CONN MAGJACK 1PORT SHLD 1000BT; Manufacturer: Bel Fuse Inc; Connector Type: RJ45; Number of Ports: 1; Speed: 10/100/1000 Base-T; LED Color: Green, Orange - Yellow; Number of Cores per Jack: 8; Shielding: Shielded; Tab Direction: Up; .Checked PCB: RF; Supplier 1: Digi-Key; Manufacturer Part Number: L829-1J1T-43; RoHS: RoHS Compliant; Category: Connectors, Interconnects; Stock 1: 7172; Pricing 1: 1=4.67, 10=3.863, 100=2.8974, 250=2.672, 500=2.41446, 1000=2.14082, 2500=2.05229, 5000=2.01205 (GBP); Number of Rows: 1; Mounting Type: Panel Mount; Through Hole, Right Angle; Height Above Board: 0.445" (11.30mm); Features: AutoMDIX, Board Guide; Packaging: Tray; ComponentLink1URL: http://www.belfuse.com/Data/Datasheets/L829-1J1T-43.pdf; ComponentLink1Description: http://www.belfuse.com/Data/Datasheets/L829-1J1T-43.pdf; Supplier Part Number 1: 380-1110-ND; .Checked SCH: RF
footprint L829-1J1T-43
pins: 1 TRCT3, 2 TRD3-, 3 TRD3+, 4 TRD2+, 5 TRD2-, 6 TRCT2, 7 TRCT4, 8 TRD4+, 9 TRD4-, 10 TRD1-, 11 TRD1+, 12 TRCT1, 13 Y_CATODE, 14 Y_ANODE, 15 O_CATODE, 16 COM_ANODE, 17 G_CATODE, 18 SHIELD1, 19 SHIELD2
text: 1:TRP1+; 2:TRP1-; 3:TRP2+; 6:TRP2-; 4:TRP3+; 5:TRP3-; 7:TRP4+; 8:TRP4-

## LFXTAL055299
designator Y?, comment 25MHz
Crystal, 25MHZ, 18PF, SMD; Manufacturer: IQD; Manufacturer Part Number: LFXTAL055299; Supplier 1: Digi-Key; RoHS: Yes; Stock 1: 46105; Pricing 1: 1=0.75, 10=0.66, 50=0.6168, 100=0.545, 500=0.51632, 1000=0.43026 (USD); ComponentLink1URL: https://datasheet.ciiva.com/46419/1853066-46419804.pdf?src-supplier=Element14; ComponentLink1Description: https://datasheet.ciiva.com/46419/1853066-46419804.pdf?src-supplier=Element14; Supplier Part Number 1: 1923-LFXTAL055299CT-ND
footprint x4-smd-3_2x2_5x1_0mm
pins: 1, 2 GND (power), 3, 4 GND (power)

## LM61460AANQRJRRQ1
designator U?
Automotive 3-V to 36-V, 6-A, low-noise synchronous step-down converter 14-VQFN-HR -40 to 150; Manufacturer: Texas Instruments; Supplier 1: Digi-Key; Manufacturer Part Number: LM61460AANQRJRRQ1; RoHS: Yes; Category: Voltage Regulators - Switching; Pricing 1: 3000=2.37092 (USD); Supplier Part Number 1: 296-LM61460AANQRJRRQ1TR-ND
footprint 14-VFQFN
pins: 1 BIAS, 2 VCC, 3 AGND, 4 FB, 5 PGOOD, 6 RT, 7 EN/SYNC, 8 VIN1, 9 PGND1, 10 SW, 11 PGND2, 12 VIN2, 13 RBOOT, 14 CBOOT

## LTST-C193TBKT-5A
designator D?, comment Blue
LED Uni-Color Blue 468nm 2-Pin Chip LED T/R; Manufacturer: Vishay Lite-On; Manufacturer Part Number: LTST-C193TBKT-5A; Lens Color: Colorless; Forward Current: 20mA; Forward Voltage: 2.8V; Luminous Intensity: 15mcd; Viewing Angle: 130°; Lens Style: Flat,Diffused,Colorless,Rectangular,Clear; Dominant Wavelength: 475nm; Test Current: 5mA; Lens Transparency: Clear; Number of Elements: 1; Power Dissipation: 76mW; Reverse Voltage: 5V; Lens Size: 0.8mm; Supplier 1: Digi-Key; RoHS: Yes; Category: LEDs; Stock 1: 269232; Pricing 1: 1=0.28, 10=0.225, 100=0.1009, 500=0.09112, 1000=0.07485, 2000=0.06509 (USD); Mount: Surface Mount; Case/Package: 0603; Number of Pins: 2; Color: Blue; Case Code (Metric): 1608; Case Code (Imperial): 0603; Min Operating Temperature: -20°C; Max Operating Temperature: 80°C; Illumination Color: Blue; Packaging: Tape and Reel; Package Quantity: 1; Number of LEDs: 1; Series: -; Length: 1.6mm; Width: 0.8mm; Height: 0.45mm; Depth: 0.8mm; Radiation Hardening: No; RoHS Compliant: Yes; Lead Free: Lead Free; ComponentLink1URL: https://datasheet.ciiva.com/2111/ltst-c193tbkt-5a-2111219.pdf?src-supplier=Digi-Key; ComponentLink1Description: https://datasheet.ciiva.com/2111/ltst-c193tbkt-5a-2111219.pdf?src-supplier=Digi-Key; ComponentLink2URL: https://datasheet.ciiva.com/11773/0900766b80dc0554-11773880.pdf?src-supplier=Rs; ComponentLink2Description: https://datasheet.ciiva.com/11773/0900766b80dc0554-11773880.pdf?src-supplier=Rs; ComponentLink3URL: https://datasheet.ciiva.com/4688/lite-on-ltst-c193tbkt-5a-187386-4688832.pdf?src-supplier=Mouser; ComponentLink3Description: https://datasheet.ciiva.com/4688/lite-on-ltst-c193tbkt-5a-187386-4688832.pdf?src-supplier=Mouser; ComponentLink4URL: https://datasheet.ciiva.com/16210/ltst-c193tbkt-5a-16210824.pdf?src-supplier=Future+Electronics; ComponentLink4Description: https://datasheet.ciiva.com/16210/ltst-c193tbkt-5a-16210824.pdf?src-supplier=Future+Electronics; ComponentLink5URL: https://datasheet.ciiva.com/15201/getdatasheetpartid-293056-15201395.pdf?src-supplier=Verical; ComponentLink5Description: https://datasheet.ciiva.com/15201/getdatasheetpartid-293056-15201395.pdf?src-supplier=Verical; ComponentLink6URL: https://datasheet.ciiva.com/2111/p-100-ltst-c193tbkt-5a-2111220.pdf?src-supplier=Digi-Key; ComponentLink6Description: https://datasheet.ciiva.com/2111/p-100-ltst-c193tbkt-5a-2111220.pdf?src-supplier=Digi-Key; ComponentLink7URL: https://datasheet.ciiva.com/2111/p-100-ltst-c193tbkt-5a-2111221.pdf?src-supplier=Digi-Key; ComponentLink7Description: https://datasheet.ciiva.com/2111/p-100-ltst-c193tbkt-5a-2111221.pdf?src-supplier=Digi-Key; Supplier Part Number 1: 160-1827-1-ND
footprint LED_0603_0m65
pins: 1 A, 2 C

## MF-FSMF010X-2
designator F?
PTC Resettable Fuse 0.1A(hold) 0.3A(trip) 15V 40A 0.5W 1s 0.9Ohm SMD Solder Pad 0603 T/R Automotive; Manufacturer: Bourns; Resistance: 6R; Power Dissipation: 500mW; Hold Current: 100mA; Trip Current: 300mA; Approvals: UL,TUV; Supplier 1: Digi-Key; Manufacturer Part Number: MF-FSMF010X-2; RoHS: Yes; Category: PTC Resettable Fuses; Stock 1: 14914; Pricing 1: 1=0.24, 5=0.23, 10=0.221, 50=0.1968, 100=0.1833, 250=0.16288, 500=0.13574, 1000=0.12896 (USD); Mount: Surface Mount; Case/Package: 0603; Number of Pins: 2NUMBER; Case Code (Metric): 1608; Case Code (Imperial): 0603; Terminal Material: Gold; Min Operating Temperature: -40°C; Max Operating Temperature: 85°C; Package Quantity: 5000; Max Current Rating: 40A; Packaging: Tape and Reel; Operating Supply Voltage: 15V; Voltage Rating: 15V; Termination: SMD/SMT; Voltage Rating (DC): 15V; Time to Trip: 1s; Series: MF-FSMF; Length: 1.6mm; Width: 0.8mm; Height: 0.65mm; Radiation Hardening: No; Reach SVHC Compliant: No; Lead Free: Lead Free; RoHS Compliant: Yes; ComponentLink1URL: https://datasheet.ciiva.com/22657/1482813-22657775.pdf?src-supplier=Element14; ComponentLink1Description: https://datasheet.ciiva.com/22657/1482813-22657775.pdf?src-supplier=Element14; ComponentLink2URL: https://datasheet.ciiva.com/7433/mffsmf-7433915.pdf?src-supplier=Digi-Key; ComponentLink2Description: https://datasheet.ciiva.com/7433/mffsmf-7433915.pdf?src-supplier=Digi-Key; ComponentLink3URL: https://datasheet.ciiva.com/7433/mffsmf-7433918.pdf?src-supplier=Digi-Key; ComponentLink3Description: https://datasheet.ciiva.com/7433/mffsmf-7433918.pdf?src-supplier=Digi-Key; ComponentLink4URL: https://datasheet.ciiva.com/7433/mffsmf-7433910.pdf?src-supplier=Digi-Key; ComponentLink4Description: https://datasheet.ciiva.com/7433/mffsmf-7433910.pdf?src-supplier=Digi-Key; ComponentLink5URL: https://datasheet.ciiva.com/32426/mf-fsmf-series-eng-tds-32426188.pdf?src-supplier=Distrelec; ComponentLink5Description: https://datasheet.ciiva.com/32426/mf-fsmf-series-eng-tds-32426188.pdf?src-supplier=Distrelec; ComponentLink6URL: https://datasheet.ciiva.com/28411/1482813-28411110.pdf?src-supplier=Element14; ComponentLink6Description: https://datasheet.ciiva.com/28411/1482813-28411110.pdf?src-supplier=Element14; ComponentLink7URL: https://datasheet.ciiva.com/48686/001055621-da-01-en-sich-ptc-reset-mf-fsmf010x-2-smd-0-1a-48686501.pdf?src-supplier=Conrad; ComponentLink7Description: https://datasheet.ciiva.com/48686/001055621-da-01-en-sich-ptc-reset-mf-fsmf010x-2-smd-0-1a-48686501.pdf?src-supplier=Conrad; Supplier Part Number 1: MF-FSMF010X-2CT-ND
footprint f0603
pins: 1, 2

## MH_3.5MMD_1.6MMH
designator MH?  (value not drawn)
Mounting Hole 3.5mm Diameter, 1.6mm Hole
footprint MH_3.5MMD_1.6MMH
pins: 1

## MH_5MMD_3.5MMH
designator MH?  (value not drawn)
Mounting Hole 5mm Diameter, 3.5mm Hole
footprint MH_5MMD_3.5MMH
pins: 1

## PIN_OUT
designator PIN?, comment Pin OUT AM625  (value not drawn)
footprint PIN_OUT AM625 - 136PIN
pins: 1, 2, 3, 4, 5, 6, 7, 8, 9, 10, 11, 12, 13, 14, 15, 16, 17, 18, 19, 20, 21, 22, 23, 24, 25, 26, 27, 28, 29, 30, 31, 32, 33, 34, 35, 36, 37, 38, 39, 40, 41, 42, 43, 44, 45, 46, 47, 48, 49, 50, 51, 52, 53, 54, 55, 56, 57, 58, 59, 60, 61, 62, 63, 64, 65, 66, 67, 68, 69, 70, 71, 72, 73, 74, 75, 76, 77, 78, 79, 80, 81, 82, 83, 84, 85, 86, 87, 88, 89, 90, 91, 92, 93, 94, 95, 96, 97, 98, 99, 100, 101, 102, 103, 104, 105, 106, 107, 108, 109, 110, 111, 112, 113, 114, 115, 116, 117, 118, 119, 120, 121, 122, 123, 124, 125, 126, 127, 128, 129, 130, 131, 132, 133, 134, 135, 136
text: PIN OUT AM625

## RB520S30T1G
designator D?
Diode Schottky 30V 0.2A 2-Pin SOD-523 T/R - Product that comes on tape, but is not reeled; Manufacturer: ON Semiconductor; Polarity: Standard; Current Rating: 200mA; Element Configuration: Single; Forward Voltage: 600mV; Max Reverse Leakage Current: 1uA; Power Dissipation: 200mW; Supplier 1: Future Electronics; Manufacturer Part Number: RB520S30T1G; RoHS: Yes; Category: Schottky Diodes; Stock 1: 33000; Pricing 1: 3000=0.0155, 12000=0.0148, 45000=0.0143, 90000=0.0139, 225000=0.0133 (USD); Case/Package: SOD-523-2; Number of Pins: 2; Min Operating Temperature: -55°C; Max Operating Temperature: 150°C; Packaging: Tape and Reel; Voltage Rating (DC): 30V; Output Current: 200mA; Max Repetitive Reverse Voltage (Vrrm): 30V; Package Quantity: 3000; Forward Current: 200mA; Average Rectified Current: 200mA; Max Forward Surge Current (Ifsm): 200mA; Max Reverse Current: 1uA; Max Reverse Voltage (DC): 30V; Series: -; Length: 1.3mm; Width: 0.9mm; Height: 0.7mm; Radiation Hardening: No; Reach SVHC Compliant: No; Lead Free: Lead Free; RoHS Compliant: Yes; ComponentLink1URL: https://datasheet.ciiva.com/915/rb520s30t1-d-915377.pdf?src-supplier=Avnet; ComponentLink1Description: https://datasheet.ciiva.com/915/rb520s30t1-d-915377.pdf?src-supplier=Avnet; ComponentLink2URL: https://datasheet.ciiva.com/915/rb520s30t1-d-915377.pdf?src-supplier=Digi-Key; ComponentLink2Description: https://datasheet.ciiva.com/915/rb520s30t1-d-915377.pdf?src-supplier=Digi-Key; ComponentLink3URL: https://datasheet.ciiva.com/22659/1708342-22659126.pdf?src-supplier=Element14; ComponentLink3Description: https://datasheet.ciiva.com/22659/1708342-22659126.pdf?src-supplier=Element14; ComponentLink4URL: https://datasheet.ciiva.com/4715/rb520s30t1-d-101117-4715113.pdf?src-supplier=Mouser; ComponentLink4Description: https://datasheet.ciiva.com/4715/rb520s30t1-d-101117-4715113.pdf?src-supplier=Mouser; ComponentLink5URL: https://datasheet.ciiva.com/16210/rb520s30t1-d-16210917.pdf?src-supplier=Future+Electronics; ComponentLink5Description: https://datasheet.ciiva.com/16210/rb520s30t1-d-16210917.pdf?src-supplier=Future+Electronics; ComponentLink6URL: https://datasheet.ciiva.com/8292/rb520s30t1-d-8292399.pdf?src-supplier=Avnet; ComponentLink6Description: https://datasheet.ciiva.com/8292/rb520s30t1-d-8292399.pdf?src-supplier=Avnet; ComponentLink7URL: https://datasheet.ciiva.com/915/rb520s30t1-d-915378.pdf?src-supplier=Digi-Key; ComponentLink7Description: https://datasheet.ciiva.com/915/rb520s30t1-d-915378.pdf?src-supplier=Digi-Key; ComponentLink8URL: https://datasheet.ciiva.com/915/rb520s30t1-d-915379.pdf?src-supplier=Digi-Key; ComponentLink8Description: https://datasheet.ciiva.com/915/rb520s30t1-d-915379.pdf?src-supplier=Digi-Key; Supplier Part Number 1: 7657109
footprint sod_523
pins: 1 A, 2 C